# Altium schematic symbol library ISO1430B.SchLib: 1 symbol
Pins are listed as number, name and electrical type; pins without a type are passive.

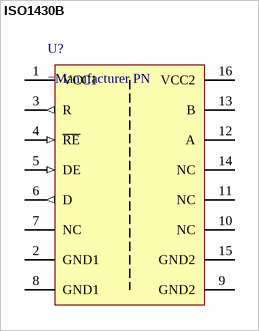
[diagram p0: symbol ISO1430B]

## ISO1430B
designator U?
Isolated RS485 IC
pins: 1 VCC1 (power), 2 GND1 (power), 3 R (out), 4 ~{RE} (in), 5 DE (in), 6 D (out), 7 NC, 8 GND1 (power), 9 GND2 (power), 10 NC, 11 NC, 12 A, 13 B, 14 NC, 15 GND2 (power), 16 VCC2 (power)